# Altium footprint library Samsung-MLCC-0805.PcbLib: 18 footprints (part 1 of 2)
Each footprint in its own frame and in the unit in brackets; x right, y up, seen from the top. Pads: shape width x height; smd on the part's side, far side on the other; paste and mask are expansions set on the pad; w line width, h text height; cw(c..) or ccw(c..) is an arc to the next point about the centre after c.
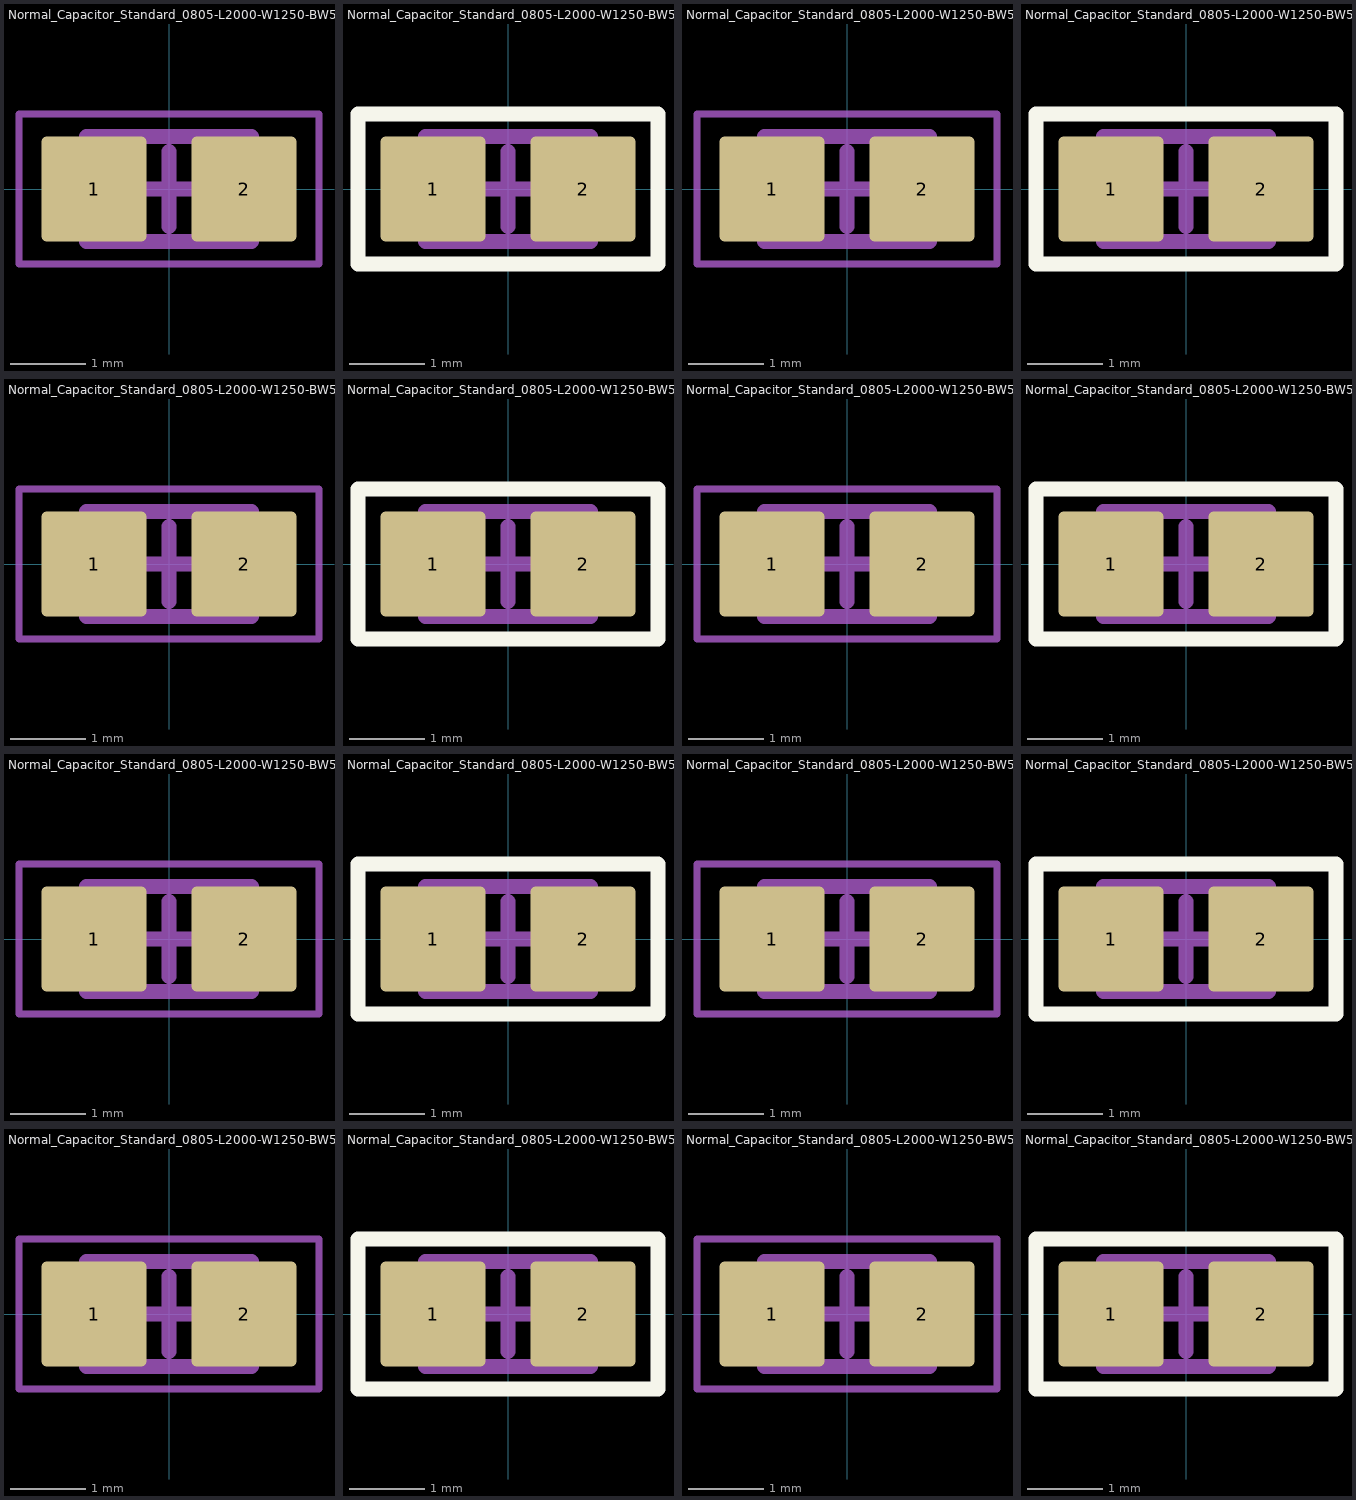
[diagram p0: the footprints below, top view; thin cyan lines are the x and y axes]

## Normal_Capacitor_Standard_0805-L2000-W1250-BW500-H650 [mm]
height 0.65
pads (2):
  rrect10% 1.4x1.4 smd: 1(-1,0) 2(1,0)
Top Courtyard:
  lines w0.1: -2,-1 -2,1 2,1 2,-1 -2,-1
  lines w0.2: -0.5,0 0.5,0 ; 0,-0.5 0,0.5
Top Assembly:
  lines w0.2: -1.1,-0.7 1.1,-0.7 1.1,0.7 -1.1,0.7 -1.1,-0.7
Top Designator (Mech10):
  text ".Designator" at -7.618,-0.508 h1.52
3D body "SMD_CCAP_0805-H650.STEP": height 0.65, standoff 0, extent -1,-0.625 1,0.625

## Normal_Capacitor_Standard_0805-L2000-W1250-BW500-H650 - OVERLAY [mm]
height 0.65
pads (2):
  rrect10% 1.4x1.4 smd: 1(-1,0) 2(1,0)
Top Overlay:
  lines w0.2: -2,-1 2,-1 2,1 -2,1 -2,-1
Top Courtyard:
  lines w0.1: -2,-1 -2,1 2,1 2,-1 -2,-1
  lines w0.2: -0.5,0 0.5,0 ; 0,-0.5 0,0.5
Top Assembly:
  lines w0.2: -1.1,-0.7 1.1,-0.7 1.1,0.7 -1.1,0.7 -1.1,-0.7
Top Designator (Mech10):
  text ".Designator" at -7.618,-0.508 h1.52
3D body "SMD_CCAP_0805-H650.STEP": height 0.65, standoff 0, extent -1,-0.625 1,0.625

## Normal_Capacitor_Standard_0805-L2000-W1250-BW500-H700 [mm]
height 0.7
pads (2):
  rrect10% 1.4x1.4 smd: 1(-1,0) 2(1,0)
Top Courtyard:
  lines w0.1: -2,-1 -2,1 2,1 2,-1 -2,-1
  lines w0.2: -0.5,0 0.5,0 ; 0,-0.5 0,0.5
Top Assembly:
  lines w0.2: -1.1,-0.7 1.1,-0.7 1.1,0.7 -1.1,0.7 -1.1,-0.7
Top Designator (Mech10):
  text ".Designator" at -7.618,-0.508 h1.52
3D body "SMD_CCAP_0805-H700.STEP": height 0.7, standoff 0, extent -1,-0.625 1,0.625

## Normal_Capacitor_Standard_0805-L2000-W1250-BW500-H700 - OVERLAY [mm]
height 0.7
pads (2):
  rrect10% 1.4x1.4 smd: 1(-1,0) 2(1,0)
Top Overlay:
  lines w0.2: -2,-1 2,-1 2,1 -2,1 -2,-1
Top Courtyard:
  lines w0.1: -2,-1 -2,1 2,1 2,-1 -2,-1
  lines w0.2: -0.5,0 0.5,0 ; 0,-0.5 0,0.5
Top Assembly:
  lines w0.2: -1.1,-0.7 1.1,-0.7 1.1,0.7 -1.1,0.7 -1.1,-0.7
Top Designator (Mech10):
  text ".Designator" at -7.618,-0.508 h1.52
3D body "SMD_CCAP_0805-H700.STEP": height 0.7, standoff 0, extent -1,-0.625 1,0.625

## Normal_Capacitor_Standard_0805-L2000-W1250-BW500-H750 [mm]
height 0.75
pads (2):
  rrect10% 1.4x1.4 smd: 1(-1,0) 2(1,0)
Top Courtyard:
  lines w0.1: -2,-1 -2,1 2,1 2,-1 -2,-1
  lines w0.2: -0.5,0 0.5,0 ; 0,-0.5 0,0.5
Top Assembly:
  lines w0.2: -1.1,-0.7 1.1,-0.7 1.1,0.7 -1.1,0.7 -1.1,-0.7
Top Designator (Mech10):
  text ".Designator" at -7.618,-0.508 h1.52
3D body "SMD_CCAP_0805-H750.STEP": height 0.75, standoff 0, extent -1,-0.625 1,0.625

## Normal_Capacitor_Standard_0805-L2000-W1250-BW500-H750 - OVERLAY [mm]
height 0.75
pads (2):
  rrect10% 1.4x1.4 smd: 1(-1,0) 2(1,0)
Top Overlay:
  lines w0.2: -2,-1 2,-1 2,1 -2,1 -2,-1
Top Courtyard:
  lines w0.1: -2,-1 -2,1 2,1 2,-1 -2,-1
  lines w0.2: -0.5,0 0.5,0 ; 0,-0.5 0,0.5
Top Assembly:
  lines w0.2: -1.1,-0.7 1.1,-0.7 1.1,0.7 -1.1,0.7 -1.1,-0.7
Top Designator (Mech10):
  text ".Designator" at -7.618,-0.508 h1.52
3D body "SMD_CCAP_0805-H750.STEP": height 0.75, standoff 0, extent -1,-0.625 1,0.625

## Normal_Capacitor_Standard_0805-L2000-W1250-BW500-H800 [mm]
height 0.8
pads (2):
  rrect10% 1.4x1.4 smd: 1(-1,0) 2(1,0)
Top Courtyard:
  lines w0.1: -2,-1 -2,1 2,1 2,-1 -2,-1
  lines w0.2: -0.5,0 0.5,0 ; 0,-0.5 0,0.5
Top Assembly:
  lines w0.2: -1.1,-0.7 1.1,-0.7 1.1,0.7 -1.1,0.7 -1.1,-0.7
Top Designator (Mech10):
  text ".Designator" at -7.618,-0.508 h1.52
3D body "SMD_CCAP_0805-H800.STEP": height 0.8, standoff 0, extent -1,-0.625 1,0.625

## Normal_Capacitor_Standard_0805-L2000-W1250-BW500-H800 - OVERLAY [mm]
height 0.8
pads (2):
  rrect10% 1.4x1.4 smd: 1(-1,0) 2(1,0)
Top Overlay:
  lines w0.2: -2,-1 2,-1 2,1 -2,1 -2,-1
Top Courtyard:
  lines w0.1: -2,-1 -2,1 2,1 2,-1 -2,-1
  lines w0.2: -0.5,0 0.5,0 ; 0,-0.5 0,0.5
Top Assembly:
  lines w0.2: -1.1,-0.7 1.1,-0.7 1.1,0.7 -1.1,0.7 -1.1,-0.7
Top Designator (Mech10):
  text ".Designator" at -7.618,-0.508 h1.52
3D body "SMD_CCAP_0805-H800.STEP": height 0.8, standoff 0, extent -1,-0.625 1,0.625

## Normal_Capacitor_Standard_0805-L2000-W1250-BW500-H850 [mm]
height 0.85
pads (2):
  rrect10% 1.4x1.4 smd: 1(-1,0) 2(1,0)
Top Courtyard:
  lines w0.1: -2,-1 2,-1 2,1 -2,1 -2,-1
  lines w0.2: -0.5,0 0.5,0 ; 0,-0.5 0,0.5
Top Assembly:
  lines w0.2: -1.1,-0.7 -1.1,0.7 1.1,0.7 1.1,-0.7 -1.1,-0.7
Top Designator (Mech10):
  text ".Designator" at -7.618,-0.508 h1.52
3D body "SMD_CCAP_0805-H850.STEP": height 0.85, standoff 0, extent -1,-0.625 1,0.625

## Normal_Capacitor_Standard_0805-L2000-W1250-BW500-H850 - OVERLAY [mm]
height 0.85
pads (2):
  rrect10% 1.4x1.4 smd: 1(-1,0) 2(1,0)
Top Overlay:
  lines w0.2: -2,-1 2,-1 2,1 -2,1 -2,-1
Top Courtyard:
  lines w0.1: -2,-1 -2,1 2,1 2,-1 -2,-1
  lines w0.2: -0.5,0 0.5,0 ; 0,-0.5 0,0.5
Top Assembly:
  lines w0.2: -1.1,-0.7 1.1,-0.7 1.1,0.7 -1.1,0.7 -1.1,-0.7
Top Designator (Mech10):
  text ".Designator" at -7.618,-0.508 h1.52
3D body "SMD_CCAP_0805-H850.STEP": height 0.85, standoff 0, extent -1,-0.625 1,0.625

## Normal_Capacitor_Standard_0805-L2000-W1250-BW500-H900 [mm]
height 0.9
pads (2):
  rrect10% 1.4x1.4 smd: 1(-1,0) 2(1,0)
Top Courtyard:
  lines w0.1: -2,-1 -2,1 2,1 2,-1 -2,-1
  lines w0.2: -0.5,0 0.5,0 ; 0,-0.5 0,0.5
Top Assembly:
  lines w0.2: -1.1,-0.7 1.1,-0.7 1.1,0.7 -1.1,0.7 -1.1,-0.7
Top Designator (Mech10):
  text ".Designator" at -7.618,-0.508 h1.52
3D body "SMD_CCAP_0805-H900.STEP": height 0.9, standoff 0, extent -1,-0.625 1,0.625

## Normal_Capacitor_Standard_0805-L2000-W1250-BW500-H900 - OVERLAY [mm]
height 0.9
pads (2):
  rrect10% 1.4x1.4 smd: 1(-1,0) 2(1,0)
Top Overlay:
  lines w0.2: -2,-1 -2,1 2,1 2,-1 -2,-1
Top Courtyard:
  lines w0.1: -2,-1 2,-1 2,1 -2,1 -2,-1
  lines w0.2: -0.5,0 0.5,0 ; 0,-0.5 0,0.5
Top Assembly:
  lines w0.2: -1.1,-0.7 -1.1,0.7 1.1,0.7 1.1,-0.7 -1.1,-0.7
Top Designator (Mech10):
  text ".Designator" at -7.618,-0.508 h1.52
3D body "SMD_CCAP_0805-H900.STEP": height 0.9, standoff 0, extent -1,-0.625 1,0.625

## Normal_Capacitor_Standard_0805-L2000-W1250-BW500-H1100 [mm]
height 1.1
pads (2):
  rrect10% 1.4x1.4 smd: 1(-1,0) 2(1,0)
Top Courtyard:
  lines w0.1: -2,-1 2,-1 2,1 -2,1 -2,-1
  lines w0.2: -0.5,0 0.5,0 ; 0,-0.5 0,0.5
Top Assembly:
  lines w0.2: -1.1,-0.7 -1.1,0.7 1.1,0.7 1.1,-0.7 -1.1,-0.7
Top Designator (Mech10):
  text ".Designator" at -7.618,-0.508 h1.52
3D body "SMD_CCAP_0805-H1100.STEP": height 1.1, standoff 0, extent -1,-0.625 1,0.625

## Normal_Capacitor_Standard_0805-L2000-W1250-BW500-H1100 - OVERLAY [mm]
height 1.1
pads (2):
  rrect10% 1.4x1.4 smd: 1(-1,0) 2(1,0)
Top Overlay:
  lines w0.2: -2,-1 -2,1 2,1 2,-1 -2,-1
Top Courtyard:
  lines w0.1: -2,-1 2,-1 2,1 -2,1 -2,-1
  lines w0.2: -0.5,0 0.5,0 ; 0,-0.5 0,0.5
Top Assembly:
  lines w0.2: -1.1,-0.7 -1.1,0.7 1.1,0.7 1.1,-0.7 -1.1,-0.7
Top Designator (Mech10):
  text ".Designator" at -7.618,-0.508 h1.52
3D body "SMD_CCAP_0805-H1100.STEP": height 1.1, standoff 0, extent -1,-0.625 1,0.625

## Normal_Capacitor_Standard_0805-L2000-W1250-BW500-H1250 [mm]
height 1.25
pads (2):
  rrect10% 1.4x1.4 smd: 1(-1,0) 2(1,0)
Top Courtyard:
  lines w0.1: -2,-1 2,-1 2,1 -2,1 -2,-1
  lines w0.2: -0.5,0 0.5,0 ; 0,-0.5 0,0.5
Top Assembly:
  lines w0.2: -1.1,-0.7 -1.1,0.7 1.1,0.7 1.1,-0.7 -1.1,-0.7
Top Designator (Mech10):
  text ".Designator" at -7.618,-0.508 h1.52
3D body "SMD_CCAP_0805-H1250.STEP": height 1.25, standoff 0, extent -1,-0.625 1,0.625

## Normal_Capacitor_Standard_0805-L2000-W1250-BW500-H1250 - OVERLAY [mm]
height 1.25
pads (2):
  rrect10% 1.4x1.4 smd: 1(-1,0) 2(1,0)
Top Overlay:
  lines w0.2: -2,-1 -2,1 2,1 2,-1 -2,-1
Top Courtyard:
  lines w0.1: -2,-1 2,-1 2,1 -2,1 -2,-1
  lines w0.2: -0.5,0 0.5,0 ; 0,-0.5 0,0.5
Top Assembly:
  lines w0.2: -1.1,-0.7 -1.1,0.7 1.1,0.7 1.1,-0.7 -1.1,-0.7
Top Designator (Mech10):
  text ".Designator" at -7.618,-0.508 h1.52
3D body "SMD_CCAP_0805-H1250.STEP": height 1.25, standoff 0, extent -1,-0.625 1,0.625